# Altium footprint library Jump_254.PcbLib: 184 footprints (part 9 of 12)
Each footprint in its own frame and in the unit in brackets; x right, y up, seen from the top. Pads: shape width x height; smd on the part's side, far side on the other; paste and mask are expansions set on the pad; w line width, h text height; cw(c..) or ccw(c..) is an arc to the next point about the centre after c.
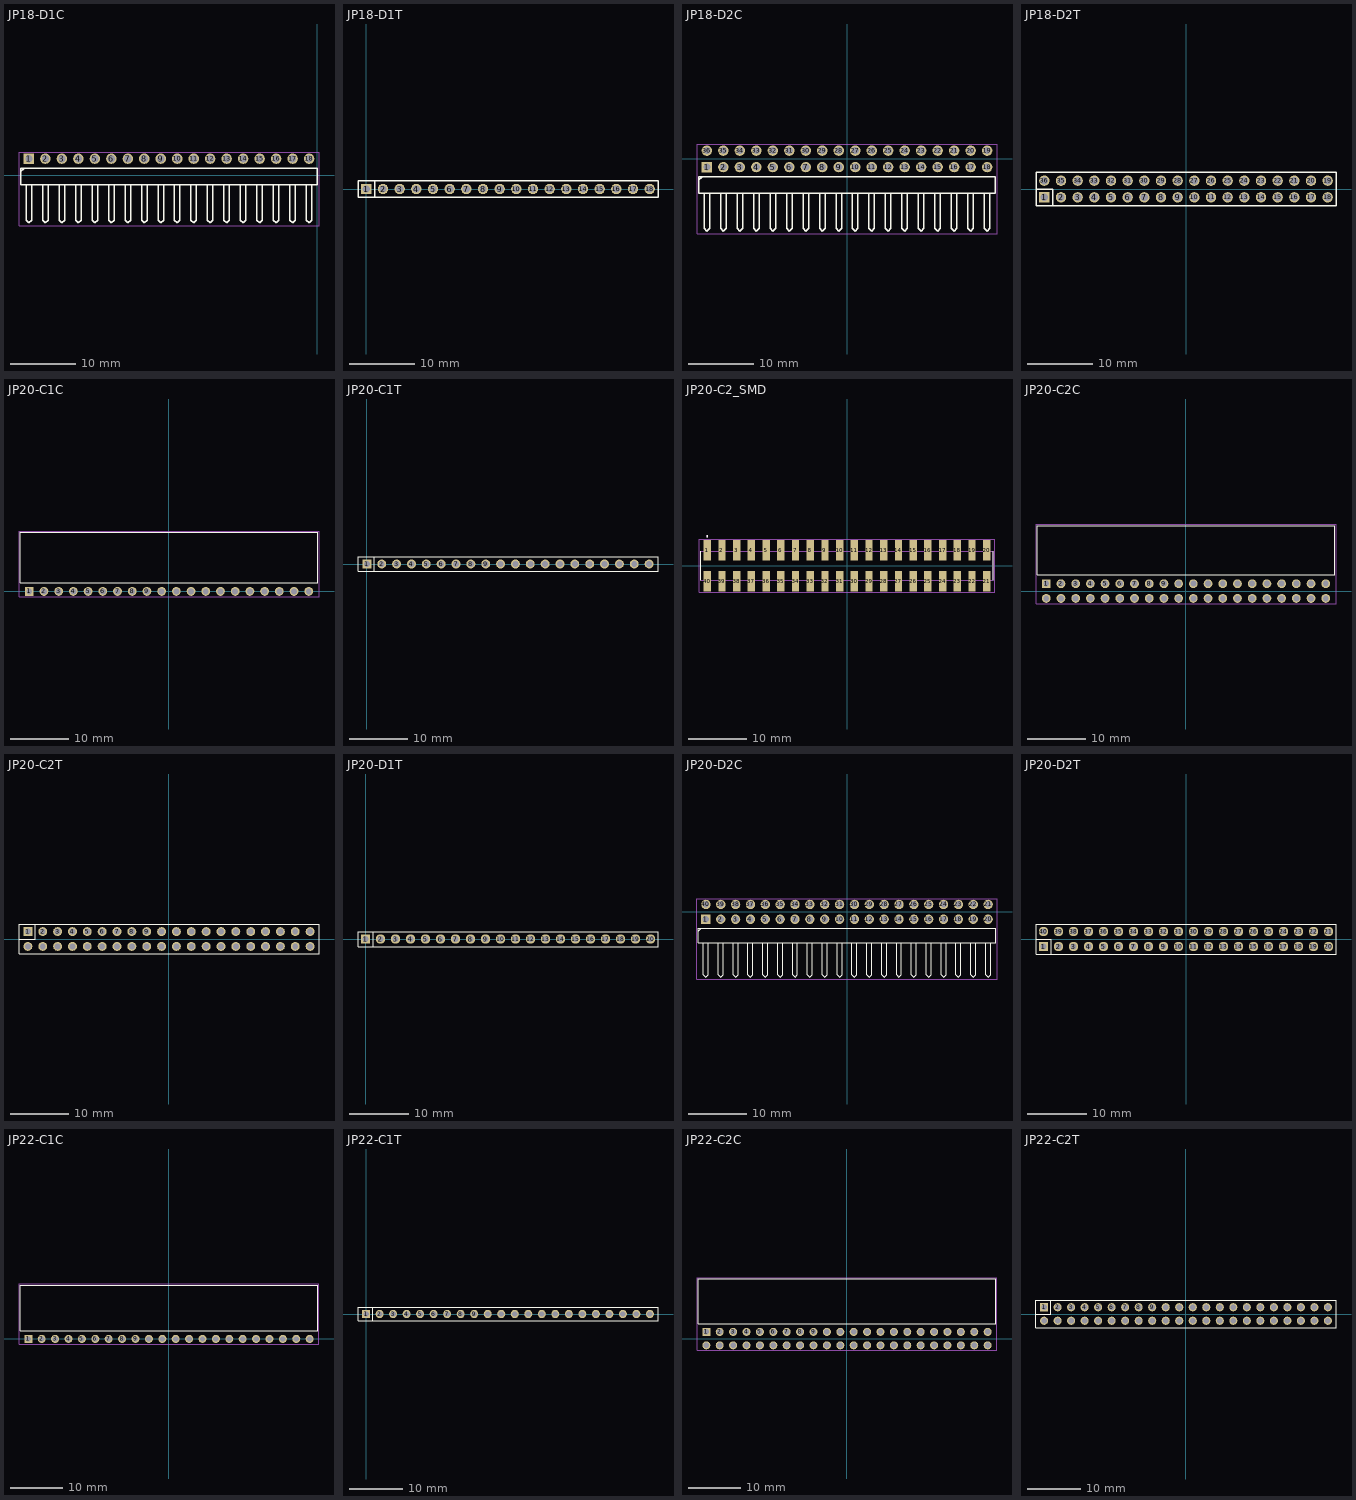
[diagram p8: the footprints below, top view; thin cyan lines are the x and y axes]

## JP18-D1C [mm] "18 pins, 1 row, right angled, gold plating"
height 2.54
pads (18):
  rect 1.6x1.6 hole 1.1: 1(-44.45,2.54)
  round 1.6 hole 1.1: 2(-41.91,2.54) 3(-39.37,2.54) 4(-36.83,2.54) 5(-34.29,2.54) 6(-31.75,2.54) 7(-29.21,2.54) 8(-26.67,2.54) 9(-24.13,2.54) 10(-21.59,2.54) 11(-19.05,2.54) 12(-16.51,2.54) 13(-13.97,2.54) 14(-11.43,2.54) 15(-8.89,2.54) 16(-6.35,2.54) 17(-3.81,2.54) 18(-1.27,2.54)
Top Overlay:
  lines w0.2: -45.678,0.574 -45.254,0.998 ; -44.873,-1.525 -44.873,-6.919 -44.45,-7.342 -44.027,-6.919 -44.027,-1.5 ; -42.333,-1.525 -42.333,-6.919 -41.91,-7.342 -41.487,-6.919 -41.487,-1.525 ; -39.793,-1.525 -39.793,-6.919 -39.37,-7.342 -38.947,-6.919 -38.947,-1.5 ; -37.253,-1.525 -37.253,-6.919 -36.83,-7.342 -36.407,-6.919 -36.407,-1.525 ; -34.713,-1.525 -34.713,-6.919 -34.29,-7.342 -33.867,-6.919 -33.867,-1.5 ; -32.173,-1.525 -32.173,-6.919 -31.75,-7.342 -31.327,-6.919 -31.327,-1.525 ; -29.633,-1.525 -29.633,-6.919 -29.21,-7.342 -28.787,-6.919 -28.787,-1.5 ; -27.093,-1.525 -27.093,-6.919 -26.67,-7.342 -26.247,-6.919 -26.247,-1.525 ; -24.553,-1.525 -24.553,-6.919 -24.13,-7.342 -23.707,-6.919 -23.707,-1.5 ; -22.013,-1.525 -22.013,-6.919 -21.59,-7.342 -21.167,-6.919 -21.167,-1.525 ; -19.473,-1.525 -19.473,-6.919 -19.05,-7.342 -18.627,-6.919 -18.627,-1.5 ; -16.933,-1.525 -16.933,-6.919 -16.51,-7.342 -16.087,-6.919 -16.087,-1.525 ; -14.393,-1.525 -14.393,-6.919 -13.97,-7.342 -13.547,-6.919 -13.547,-1.5 ; -11.853,-1.525 -11.853,-6.919 -11.43,-7.342 -11.007,-6.919 -11.007,-1.525 ; -9.313,-1.525 -9.313,-6.919 -8.89,-7.342 -8.467,-6.919 -8.467,-1.5 ; -6.773,-1.525 -6.773,-6.919 -6.35,-7.342 -5.927,-6.919 -5.927,-1.525 ; -4.233,-1.525 -4.233,-6.919 -3.81,-7.342 -3.387,-6.919 -3.387,-1.5 ; -1.693,-1.525 -1.693,-6.919 -1.27,-7.342 -0.847,-6.919 -0.847,-1.525 ; -45.72,-1.5 0,-1.5 0,1.04 -45.72,1.04 -45.72,-1.5
Mechanical 15:
  lines w0.1: -45.97,-7.75 0.25,-7.75 0.25,3.5 -45.97,3.5 -45.97,-7.75
3D body "61301811021.stp": height 2.55, standoff -2.99, extent -45.72,-7.524 0,2.836

## JP18-D1T [mm] "18 pins, 1 row, straight, gold plating"
height 8.54
pads (18):
  rect 1.6x1.6 hole 1.1: 1(0,0)
  round 1.6 hole 1.1: 2(2.54,0) 3(5.08,0) 4(7.62,0) 5(10.16,0) 6(12.7,0) 7(15.24,0) 8(17.78,0) 9(20.32,0) 10(22.86,0) 11(25.4,0) 12(27.94,0) 13(30.48,0) 14(33.02,0) 15(35.56,0) 16(38.1,0) 17(40.64,0) 18(43.18,0)
Top Overlay:
  lines w0.2: 1.27,-1.27 1.27,1.27 ; -1.27,-1.27 44.45,-1.27 44.45,1.27 0.635,1.27 -1.27,1.27 -1.27,-1.27
3D body "61301811121.stp": height 8.54, standoff -3, extent -1.27,-1.27 44.45,1.27

## JP18-D2C [mm] "36 pins, dual row, right angled, gold plating"
height 5.08
pads (36):
  rect 1.6x1.6 hole 1.1: 1(-21.59,-1.27)
  round 1.6 hole 1.1: 2(-19.05,-1.27) 3(-16.51,-1.27) 4(-13.97,-1.27) 5(-11.43,-1.27) 6(-8.89,-1.27) 7(-6.35,-1.27) 8(-3.81,-1.27) 9(-1.27,-1.27) 10(1.27,-1.27) 11(3.81,-1.27) 12(6.35,-1.27) 13(8.89,-1.27) 14(11.43,-1.27) 15(13.97,-1.27) 16(16.51,-1.27) 17(19.05,-1.27) 18(21.59,-1.27) 19(21.59,1.27) 20(19.05,1.27) 21(16.51,1.27) 22(13.97,1.27) 23(11.43,1.27) 24(8.89,1.27) 25(6.35,1.27) 26(3.81,1.27) 27(1.27,1.27) 28(-1.27,1.27) 29(-3.81,1.27) 30(-6.35,1.27) 31(-8.89,1.27) 32(-11.43,1.27) 33(-13.97,1.27) 34(-16.51,1.27) 35(-19.05,1.27) 36(-21.59,1.27)
Top Overlay:
  lines w0.2: -22.818,-3.236 -22.394,-2.812 ; -22.013,-5.335 -22.013,-10.729 -21.59,-11.152 -21.167,-10.729 -21.167,-5.31 ; -19.473,-5.335 -19.473,-10.729 -19.05,-11.152 -18.627,-10.729 -18.627,-5.335 ; -16.933,-5.335 -16.933,-10.729 -16.51,-11.152 -16.087,-10.729 -16.087,-5.31 ; -14.393,-5.335 -14.393,-10.729 -13.97,-11.152 -13.547,-10.729 -13.547,-5.335 ; -11.853,-5.335 -11.853,-10.729 -11.43,-11.152 -11.007,-10.729 -11.007,-5.31 ; -9.313,-5.335 -9.313,-10.729 -8.89,-11.152 -8.467,-10.729 -8.467,-5.335 ; -6.773,-5.335 -6.773,-10.729 -6.35,-11.152 -5.927,-10.729 -5.927,-5.31 ; -4.233,-5.335 -4.233,-10.729 -3.81,-11.152 -3.387,-10.729 -3.387,-5.335 ; -1.693,-5.335 -1.693,-10.729 -1.27,-11.152 -0.847,-10.729 -0.847,-5.31 ; 0.847,-5.335 0.847,-10.729 1.27,-11.152 1.693,-10.729 1.693,-5.335 ; 3.387,-5.335 3.387,-10.729 3.81,-11.152 4.233,-10.729 4.233,-5.31 ; 5.927,-5.335 5.927,-10.729 6.35,-11.152 6.773,-10.729 6.773,-5.335 ; 8.467,-5.335 8.467,-10.729 8.89,-11.152 9.313,-10.729 9.313,-5.31 ; 11.007,-5.335 11.007,-10.729 11.43,-11.152 11.853,-10.729 11.853,-5.335 ; 13.547,-5.335 13.547,-10.729 13.97,-11.152 14.393,-10.729 14.393,-5.31 ; 16.087,-5.335 16.087,-10.729 16.51,-11.152 16.933,-10.729 16.933,-5.335 ; 18.627,-5.335 18.627,-10.729 19.05,-11.152 19.473,-10.729 19.473,-5.31 ; 21.167,-5.335 21.167,-10.729 21.59,-11.152 22.013,-10.729 22.013,-5.335 ; -22.86,-5.31 -22.86,-2.77 22.86,-2.77 22.86,-5.31 -22.86,-5.31
Mechanical 15:
  lines w0.1: -23.11,-11.56 -23.11,2.27 23.11,2.27 23.11,-11.56 -23.11,-11.56
3D body "61303621021.stp": height 5.09, standoff -2.99, extent -22.86,-11.334 22.86,1.566

## JP18-D2T [mm] "36 pins, dual pin, straight, gold plating"
height 8.54
pads (36):
  rect 1.6x1.6 hole 1.1: 1(-21.59,-1.27)
  round 1.6 hole 1.1: 2(-19.05,-1.27) 3(-16.51,-1.27) 4(-13.97,-1.27) 5(-11.43,-1.27) 6(-8.89,-1.27) 7(-6.35,-1.27) 8(-3.81,-1.27) 9(-1.27,-1.27) 10(1.27,-1.27) 11(3.81,-1.27) 12(6.35,-1.27) 13(8.89,-1.27) 14(11.43,-1.27) 15(13.97,-1.27) 16(16.51,-1.27) 17(19.05,-1.27) 18(21.59,-1.27) 19(21.59,1.27) 20(19.05,1.27) 21(16.51,1.27) 22(13.97,1.27) 23(11.43,1.27) 24(8.89,1.27) 25(6.35,1.27) 26(3.81,1.27) 27(1.27,1.27) 28(-1.27,1.27) 29(-3.81,1.27) 30(-6.35,1.27) 31(-8.89,1.27) 32(-11.43,1.27) 33(-13.97,1.27) 34(-16.51,1.27) 35(-19.05,1.27) 36(-21.59,1.27)
Top Overlay:
  lines w0.2: -22.86,0 -20.32,0 -20.32,-2.54 ; -22.86,-2.54 -22.86,2.54 22.86,2.54 22.86,-2.54 -22.86,-2.54
3D body "61303621121.stp": height 8.55, standoff -2.99, extent -22.86,-2.54 22.86,2.54

## JP20-C1C [mm] "20p 1 row Right angle"
height 2.5
pads (20):
  rect 1.52x1.52 hole 1.02: 1(-24.13,0)
  round 1.52 hole 1.02: 2(-21.59,0) 3(-19.05,0) 4(-16.51,0) 5(-13.97,0) 6(-11.43,0) 7(-8.89,0) 8(-6.35,0) 9(-3.81,0) 10(-1.27,0) 11(1.27,0) 12(3.81,0) 13(6.35,0) 14(8.89,0) 15(11.43,0) 16(13.97,0) 17(16.51,0) 18(19.05,0) 19(21.59,0) 20(24.13,0)
Top Overlay:
  lines w0.2: -25.654,1.524 -25.654,10.173 25.654,10.173 25.654,1.524 -25.654,1.524
Mechanical 15:
  lines w0.1: -25.9,-0.96 -25.9,10.423 25.904,10.423 25.904,-0.96 -25.9,-0.96
3D body "613020143121.stp": height 2.51, standoff -3.08, extent -25.65,-0.208 25.65,10.092

## JP20-C1T [mm] "20 row, straight, gold plating"
height 8.5
pads (20):
  rect 1.52x1.52 hole 1.02: 1(0,0)
  round 1.52 hole 1.02: 2(2.54,0) 3(5.08,0) 4(7.62,0) 5(10.16,0) 6(12.7,0) 7(15.24,0) 8(17.78,0) 9(20.32,0) 10(22.86,0) 11(25.4,0) 12(27.94,0) 13(30.48,0) 14(33.02,0) 15(35.56,0) 16(38.1,0) 17(40.64,0) 18(43.18,0) 19(45.72,0) 20(48.26,0)
Top Overlay:
  lines w0.2: 1.27,-1.27 1.27,1.27 ; -1.52,-1.27 -1.52,1.27 0.635,1.27 49.78,1.27 49.78,-1.27 -1.52,-1.27
3D body "61302011821.stp": height 8.51, standoff -3.09, extent -1.52,-1.25 49.78,1.25

## JP20-C2_SMD [mm]
pads (40):
  rect 1.27x3.55 smd: 1(-24.13,2.675) 2(-21.59,2.675) 3(-19.05,2.675) 4(-16.51,2.675) 5(-13.97,2.675) 6(-11.43,2.675) 7(-8.89,2.675) 8(-6.35,2.675) 9(-3.81,2.675) 10(-1.27,2.675) 11(1.27,2.675) 12(3.81,2.675) 13(6.35,2.675) 14(8.89,2.675) 15(11.43,2.675) 16(13.97,2.675) 17(16.51,2.675) 18(19.05,2.675) 19(21.59,2.675) 20(24.13,2.675) 21(24.13,-2.675) 22(21.59,-2.675) 23(19.05,-2.675) 24(16.51,-2.675) 25(13.97,-2.675) 26(11.43,-2.675) 27(8.89,-2.675) 28(6.35,-2.675) 29(3.81,-2.675) 30(1.27,-2.675) 31(-1.27,-2.675) 32(-3.81,-2.675) 33(-6.35,-2.675) 34(-8.89,-2.675) 35(-11.43,-2.675) 36(-13.97,-2.675) 37(-16.51,-2.675) 38(-19.05,-2.675) 39(-21.59,-2.675) 40(-24.13,-2.675)
Top Overlay:
  circle w0.2: c-24.13,5.08 r0.1
  lines w0.2: -25.25,-2.475 -25.25,2.475 ; 25.25,-2.475 25.25,2.475
Mechanical 13:
  circle w0.2: c-24.13,5.08 r0.1
  lines w0.1: -25.25,-2.475 -25.25,2.475 25.25,2.475 25.25,-2.475 -25.25,-2.475
Mechanical 15:
  lines w0.05: -25.5,-4.57 -25.5,4.57 25.5,4.57 25.5,-4.57 -25.5,-4.57
3D body "SSW-120-22-S-D-VS.stp": height 9.81, standoff 0.03, extent -25.654,-3.937 25.654,3.937

## JP20-C2C [mm] "40p 2 rows Right angle"
height 5.08
pads (40):
  rect 1.52x1.52 hole 1.02: 1(-24.13,1.27)
  round 1.52 hole 1.02: 2(-21.59,1.27) 3(-19.05,1.27) 4(-16.51,1.27) 5(-13.97,1.27) 6(-11.43,1.27) 7(-8.89,1.27) 8(-6.35,1.27) 9(-3.81,1.27) 10(-1.27,1.27) 11(1.27,1.27) 12(3.81,1.27) 13(6.35,1.27) 14(8.89,1.27) 15(11.43,1.27) 16(13.97,1.27) 17(16.51,1.27) 18(19.05,1.27) 19(21.59,1.27) 20(24.13,1.27) 21(24.13,-1.27) 22(21.59,-1.27) 23(19.05,-1.27) 24(16.51,-1.27) 25(13.97,-1.27) 26(11.43,-1.27) 27(8.89,-1.27) 28(6.35,-1.27) 29(3.81,-1.27) 30(1.27,-1.27) 31(-1.27,-1.27) 32(-3.81,-1.27) 33(-6.35,-1.27) 34(-8.89,-1.27) 35(-11.43,-1.27) 36(-13.97,-1.27) 37(-16.51,-1.27) 38(-19.05,-1.27) 39(-21.59,-1.27) 40(-24.13,-1.27)
Top Overlay:
  lines w0.2: -25.654,2.794 25.654,2.794 25.654,11.316 -25.654,11.316 -25.654,2.794
Mechanical 15:
  lines w0.1: -25.9,-2.23 25.904,-2.23 25.904,11.566 -25.9,11.566 -25.9,-2.23
3D body "613040243121.stp": height 5.09, standoff -4.46, extent -25.65,-1.478 25.65,11.362

## JP20-C2T [mm] "40 pins, dual row, straight, gold plating"
height 8.5
pads (40):
  rect 1.52x1.52 hole 1.02: 1(-24.13,1.27)
  round 1.52 hole 1.02: 2(-21.59,1.27) 3(-19.05,1.27) 4(-16.51,1.27) 5(-13.97,1.27) 6(-11.43,1.27) 7(-8.89,1.27) 8(-6.35,1.27) 9(-3.81,1.27) 10(-1.27,1.27) 11(1.27,1.27) 12(3.81,1.27) 13(6.35,1.27) 14(8.89,1.27) 15(11.43,1.27) 16(13.97,1.27) 17(16.51,1.27) 18(19.05,1.27) 19(21.59,1.27) 20(24.13,1.27) 21(24.13,-1.27) 22(21.59,-1.27) 23(19.05,-1.27) 24(16.51,-1.27) 25(13.97,-1.27) 26(11.43,-1.27) 27(8.89,-1.27) 28(6.35,-1.27) 29(3.81,-1.27) 30(1.27,-1.27) 31(-1.27,-1.27) 32(-3.81,-1.27) 33(-6.35,-1.27) 34(-8.89,-1.27) 35(-11.43,-1.27) 36(-13.97,-1.27) 37(-16.51,-1.27) 38(-19.05,-1.27) 39(-21.59,-1.27) 40(-24.13,-1.27)
Top Overlay:
  lines w0.2: -25.65,0 -22.86,0 -22.86,2.54 ; -25.65,-2.54 -25.65,2.54 25.65,2.54 25.65,-2.54 -25.65,-2.54
3D body "61304021821.stp": height 8.51, standoff -3.09, extent -25.65,-2.54 25.65,2.54

## JP20-D1T [mm] "20 pins, 1 row, straight, gold plating"
height 8.54
pads (20):
  rect 1.6x1.6 hole 1.1: 1(0,0)
  round 1.6 hole 1.1: 2(2.54,0) 3(5.08,0) 4(7.62,0) 5(10.16,0) 6(12.7,0) 7(15.24,0) 8(17.78,0) 9(20.32,0) 10(22.86,0) 11(25.4,0) 12(27.94,0) 13(30.48,0) 14(33.02,0) 15(35.56,0) 16(38.1,0) 17(40.64,0) 18(43.18,0) 19(45.72,0) 20(48.26,0)
Top Overlay:
  lines w0.2: 1.27,-1.27 1.27,1.27 ; -1.27,-1.27 -1.27,1.27 0.635,1.27 49.53,1.27 49.53,-1.27 -1.27,-1.27
3D body "61302011121.stp": height 8.54, standoff -3, extent -1.27,-1.27 49.53,1.27

## JP20-D2C [mm] "40 pins, dual row, right angled, gold plating"
height 5.08
pads (40):
  rect 1.6x1.6 hole 1.1: 1(-24.13,-1.27)
  round 1.6 hole 1.1: 2(-21.59,-1.27) 3(-19.05,-1.27) 4(-16.51,-1.27) 5(-13.97,-1.27) 6(-11.43,-1.27) 7(-8.89,-1.27) 8(-6.35,-1.27) 9(-3.81,-1.27) 10(-1.27,-1.27) 11(1.27,-1.27) 12(3.81,-1.27) 13(6.35,-1.27) 14(8.89,-1.27) 15(11.43,-1.27) 16(13.97,-1.27) 17(16.51,-1.27) 18(19.05,-1.27) 19(21.59,-1.27) 20(24.13,-1.27) 21(24.13,1.27) 22(21.59,1.27) 23(19.05,1.27) 24(16.51,1.27) 25(13.97,1.27) 26(11.43,1.27) 27(8.89,1.27) 28(6.35,1.27) 29(3.81,1.27) 30(1.27,1.27) 31(-1.27,1.27) 32(-3.81,1.27) 33(-6.35,1.27) 34(-8.89,1.27) 35(-11.43,1.27) 36(-13.97,1.27) 37(-16.51,1.27) 38(-19.05,1.27) 39(-21.59,1.27) 40(-24.13,1.27)
Top Overlay:
  lines w0.2: -25.358,-3.236 -24.934,-2.812 ; -24.553,-5.335 -24.553,-10.729 -24.13,-11.152 -23.707,-10.729 -23.707,-5.31 ; -22.013,-5.335 -22.013,-10.729 -21.59,-11.152 -21.167,-10.729 -21.167,-5.335 ; -19.473,-5.335 -19.473,-10.729 -19.05,-11.152 -18.627,-10.729 -18.627,-5.31 ; -16.933,-5.335 -16.933,-10.729 -16.51,-11.152 -16.087,-10.729 -16.087,-5.335 ; -14.393,-5.335 -14.393,-10.729 -13.97,-11.152 -13.547,-10.729 -13.547,-5.31 ; -11.853,-5.335 -11.853,-10.729 -11.43,-11.152 -11.007,-10.729 -11.007,-5.335 ; -9.313,-5.335 -9.313,-10.729 -8.89,-11.152 -8.467,-10.729 -8.467,-5.31 ; -6.773,-5.335 -6.773,-10.729 -6.35,-11.152 -5.927,-10.729 -5.927,-5.335 ; -4.233,-5.335 -4.233,-10.729 -3.81,-11.152 -3.387,-10.729 -3.387,-5.31 ; -1.693,-5.335 -1.693,-10.729 -1.27,-11.152 -0.847,-10.729 -0.847,-5.335 ; 0.847,-5.335 0.847,-10.729 1.27,-11.152 1.693,-10.729 1.693,-5.31 ; 3.387,-5.335 3.387,-10.729 3.81,-11.152 4.233,-10.729 4.233,-5.335 ; 5.927,-5.335 5.927,-10.729 6.35,-11.152 6.773,-10.729 6.773,-5.31 ; 8.467,-5.335 8.467,-10.729 8.89,-11.152 9.313,-10.729 9.313,-5.335 ; 11.007,-5.335 11.007,-10.729 11.43,-11.152 11.853,-10.729 11.853,-5.31 ; 13.547,-5.335 13.547,-10.729 13.97,-11.152 14.393,-10.729 14.393,-5.335 ; 16.087,-5.335 16.087,-10.729 16.51,-11.152 16.933,-10.729 16.933,-5.31 ; 18.627,-5.335 18.627,-10.729 19.05,-11.152 19.473,-10.729 19.473,-5.335 ; 21.167,-5.335 21.167,-10.729 21.59,-11.152 22.013,-10.729 22.013,-5.31 ; 23.707,-5.335 23.707,-10.729 24.13,-11.152 24.553,-10.729 24.553,-5.335 ; -25.4,-5.31 -25.4,-2.77 25.4,-2.77 25.4,-5.31 -25.4,-5.31
Mechanical 15:
  lines w0.1: -25.65,-11.56 25.65,-11.56 25.65,2.27 -25.65,2.27 -25.65,-11.56
3D body "61304021021.stp": height 5.09, standoff -2.99, extent -25.4,-11.334 25.4,1.566

## JP20-D2T [mm] "40 pins, dual pin, straight, gold plating"
height 8.54
pads (40):
  rect 1.6x1.6 hole 1.1: 1(-24.13,-1.27)
  round 1.6 hole 1.1: 2(-21.59,-1.27) 3(-19.05,-1.27) 4(-16.51,-1.27) 5(-13.97,-1.27) 6(-11.43,-1.27) 7(-8.89,-1.27) 8(-6.35,-1.27) 9(-3.81,-1.27) 10(-1.27,-1.27) 11(1.27,-1.27) 12(3.81,-1.27) 13(6.35,-1.27) 14(8.89,-1.27) 15(11.43,-1.27) 16(13.97,-1.27) 17(16.51,-1.27) 18(19.05,-1.27) 19(21.59,-1.27) 20(24.13,-1.27) 21(24.13,1.27) 22(21.59,1.27) 23(19.05,1.27) 24(16.51,1.27) 25(13.97,1.27) 26(11.43,1.27) 27(8.89,1.27) 28(6.35,1.27) 29(3.81,1.27) 30(1.27,1.27) 31(-1.27,1.27) 32(-3.81,1.27) 33(-6.35,1.27) 34(-8.89,1.27) 35(-11.43,1.27) 36(-13.97,1.27) 37(-16.51,1.27) 38(-19.05,1.27) 39(-21.59,1.27) 40(-24.13,1.27)
Top Overlay:
  lines w0.2: -25.4,0 -22.86,0 -22.86,-2.54 ; -25.4,-2.54 -25.4,2.54 25.4,2.54 25.4,-2.54 -25.4,-2.54
3D body "61304021121.stp": height 8.55, standoff -2.99, extent -25.4,-2.54 25.4,2.54

## JP22-C1C [mm] "22p 1 row Right angle"
height 2.5
pads (22):
  rect 1.52x1.52 hole 1.02: 1(-26.67,0)
  round 1.52 hole 1.02: 2(-24.13,0) 3(-21.59,0) 4(-19.05,0) 5(-16.51,0) 6(-13.97,0) 7(-11.43,0) 8(-8.89,0) 9(-6.35,0) 10(-3.81,0) 11(-1.27,0) 12(1.27,0) 13(3.81,0) 14(6.35,0) 15(8.89,0) 16(11.43,0) 17(13.97,0) 18(16.51,0) 19(19.05,0) 20(21.59,0) 21(24.13,0) 22(26.67,0)
Top Overlay:
  lines w0.2: -28.19,1.524 -28.19,10.173 28.194,10.173 28.194,1.524 -28.19,1.524
Mechanical 15:
  lines w0.1: -28.44,-0.96 -28.44,10.423 28.444,10.423 28.444,-0.96 -28.44,-0.96
3D body "613022143121.stp": height 2.51, standoff -3.08, extent -28.19,-0.208 28.19,10.092

## JP22-C1T [mm] "22 row, straight, gold plating"
height 8.5
pads (22):
  rect 1.52x1.52 hole 1.02: 1(0,0)
  round 1.52 hole 1.02: 2(2.54,0) 3(5.08,0) 4(7.62,0) 5(10.16,0) 6(12.7,0) 7(15.24,0) 8(17.78,0) 9(20.32,0) 10(22.86,0) 11(25.4,0) 12(27.94,0) 13(30.48,0) 14(33.02,0) 15(35.56,0) 16(38.1,0) 17(40.64,0) 18(43.18,0) 19(45.72,0) 20(48.26,0) 21(50.8,0) 22(53.34,0)
Top Overlay:
  lines w0.2: 1.27,-1.27 1.27,1.27 ; -1.52,-1.27 54.86,-1.27 54.86,1.27 0.635,1.27 -1.52,1.27 -1.52,-1.27
3D body "61302211821.stp": height 8.51, standoff -3.09, extent -1.52,-1.25 54.86,1.25

## JP22-C2C [mm] "44p 2 rows Right angle"
height 5.08
pads (44):
  rect 1.52x1.52 hole 1.02: 1(-26.67,1.27)
  round 1.52 hole 1.02: 2(-24.13,1.27) 3(-21.59,1.27) 4(-19.05,1.27) 5(-16.51,1.27) 6(-13.97,1.27) 7(-11.43,1.27) 8(-8.89,1.27) 9(-6.35,1.27) 10(-3.81,1.27) 11(-1.27,1.27) 12(1.27,1.27) 13(3.81,1.27) 14(6.35,1.27) 15(8.89,1.27) 16(11.43,1.27) 17(13.97,1.27) 18(16.51,1.27) 19(19.05,1.27) 20(21.59,1.27) 21(24.13,1.27) 22(26.67,1.27) 23(26.67,-1.27) 24(24.13,-1.27) 25(21.59,-1.27) 26(19.05,-1.27) 27(16.51,-1.27) 28(13.97,-1.27) 29(11.43,-1.27) 30(8.89,-1.27) 31(6.35,-1.27) 32(3.81,-1.27) 33(1.27,-1.27) 34(-1.27,-1.27) 35(-3.81,-1.27) 36(-6.35,-1.27) 37(-8.89,-1.27) 38(-11.43,-1.27) 39(-13.97,-1.27) 40(-16.51,-1.27) 41(-19.05,-1.27) 42(-21.59,-1.27) 43(-24.13,-1.27) 44(-26.67,-1.27)
Top Overlay:
  lines w0.2: -28.194,2.794 -28.194,11.316 28.194,11.316 28.194,2.794 -28.194,2.794
Mechanical 15:
  lines w0.1: -28.44,-2.23 -28.44,11.566 28.444,11.566 28.444,-2.23 -28.44,-2.23
3D body "613044243121.stp": height 5.09, standoff -4.46, extent -28.19,-1.478 28.19,11.362

## JP22-C2T [mm] "44 pins, dual row, straight, gold plating"
height 8.5
pads (44):
  rect 1.52x1.52 hole 1.02: 1(-26.67,1.27)
  round 1.52 hole 1.02: 2(-24.13,1.27) 3(-21.59,1.27) 4(-19.05,1.27) 5(-16.51,1.27) 6(-13.97,1.27) 7(-11.43,1.27) 8(-8.89,1.27) 9(-6.35,1.27) 10(-3.81,1.27) 11(-1.27,1.27) 12(1.27,1.27) 13(3.81,1.27) 14(6.35,1.27) 15(8.89,1.27) 16(11.43,1.27) 17(13.97,1.27) 18(16.51,1.27) 19(19.05,1.27) 20(21.59,1.27) 21(24.13,1.27) 22(26.67,1.27) 23(26.67,-1.27) 24(24.13,-1.27) 25(21.59,-1.27) 26(19.05,-1.27) 27(16.51,-1.27) 28(13.97,-1.27) 29(11.43,-1.27) 30(8.89,-1.27) 31(6.35,-1.27) 32(3.81,-1.27) 33(1.27,-1.27) 34(-1.27,-1.27) 35(-3.81,-1.27) 36(-6.35,-1.27) 37(-8.89,-1.27) 38(-11.43,-1.27) 39(-13.97,-1.27) 40(-16.51,-1.27) 41(-19.05,-1.27) 42(-21.59,-1.27) 43(-24.13,-1.27) 44(-26.67,-1.27)
Top Overlay:
  lines w0.2: -28.19,0 -25.4,0 -25.4,2.54 ; -28.19,-2.54 28.19,-2.54 28.19,2.54 -28.19,2.54 -28.19,-2.54
3D body "61304421821.stp": height 8.51, standoff -3.09, extent -28.19,-2.54 28.19,2.54